# EAGLE library part INA2191A4IYBJR (library INA2191A4IYBJR)
Current Sense Amplifiers 40-V, dual-channel, bidirectional, ultraprecise current sense amp w/ picoamp IB & ENABLE in wcsp Source: Datasheet <https://www.ti.com/lit/gpn/ina2191>
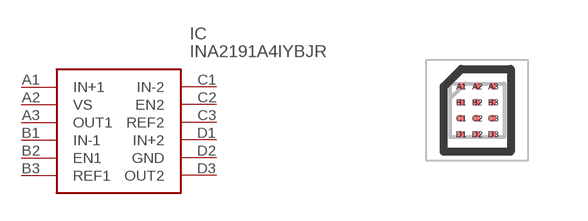
[diagram p0: symbol with the pads of BGA12C40P3X4_135X135X35; footprint BGA12C40P3X4_135X135X35]

Designator prefix IC

## INA2191A4IYBJR (Arrow_Part_Number: INA2191A4IYBJR; Arrow_Price-Stock: https://www.arrow.com/en/products/ina2191a4iybjr/texas-instruments?region=nac; Description: Current Sense Amplifiers 40-V, dual-channel, bidirectional, ultraprecise current sense amp w/ picoamp IB & ENABLE in wcsp; Height: 0.35mm; Manufacturer_Name: Texas Instruments; Manufacturer_Part_Number: INA2191A4IYBJR; Mouser_Part_Number: 595-INA2191A4IYBJR; Mouser_Price-Stock: https://www.mouser.co.uk/ProductDetail/Texas-Instruments/INA2191A4IYBJR?qs=Wj%2FVkw3K%252BMCinTcvAbaLpA%3D%3D)  [BGA12C40P3X4_135X135X35]
A1  IN+1
A2  VS
A3  OUT1
B1  IN-1
B2  EN1
B3  REF1
C1  IN-2
C2  EN2
C3  REF2
D1  IN+2
D2  GND
D3  OUT2

## Footprint BGA12C40P3X4_135X135X35 (pad centres in mm)
YBJ0012
smd 0.173 x 0.173: A1 -0.4,0.6; A2 0,0.6; A3 0.4,0.6; B1 -0.4,0.2; B2 0,0.2; B3 0.4,0.2; C1 -0.4,-0.2; C2 0,-0.2; C3 0.4,-0.2; D1 -0.4,-0.6; D2 0,-0.6; D3 0.4,-0.6